# Altium footprint library Conn_Molex_47491-0001_eec_0.PcbLib: 1 footprints
Each footprint in its own frame and in the unit in brackets; x right, y up, seen from the top. Pads: shape width x height; smd on the part's side, far side on the other; paste and mask are expansions set on the pad; w line width, h text height; cw(c..) or ccw(c..) is an arc to the next point about the centre after c.
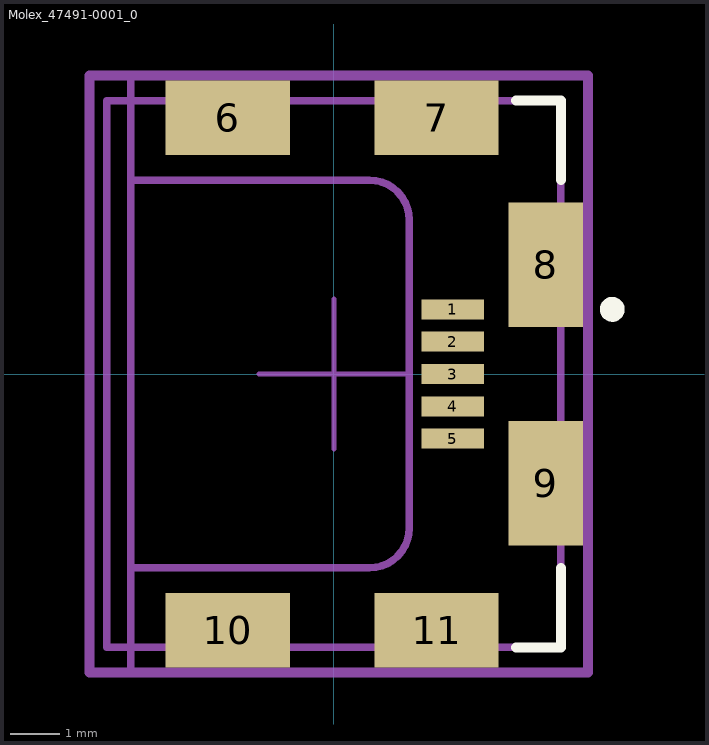
[diagram p0: the footprint, top view; thin cyan lines are the x and y axes]

## Molex_47491-0001_0 [mm]
pads (11):
  rect 1.25x0.4 smd paste+0 mask+0: 1(2.39,1.3) 2(2.39,0.65) 3(2.39,0) 4(2.39,-0.65) 5(2.39,-1.3)
  rect 2.5x1.5 smd paste+0 mask+0: 6(-2.135,5.15) 7(2.065,5.15) 10(-2.135,-5.15) 11(2.065,-5.15)
  rect 1.5x2.5 smd paste+0 mask+0: 8(4.265,2.2) 9(4.265,-2.2)
Top Overlay:
  circle w0.25: c5.6,1.3 r0.125
  lines w0.2: 3.665,-5.5 4.565,-5.5 4.565,-3.9 ; 3.665,5.5 4.565,5.5 4.565,3.9
Mechanical 2:
  lines w0.15: -4.085,-5.9 -4.085,-3.9 0.715,-3.9 ccw(c0.715,-3.1) 1.515,-3.1 1.515,3.1 ccw(c0.715,3.1) 0.715,3.9 -4.085,3.9 -4.085,5.9
Mechanical 10:
  lines w0.2: -4.915,-6 5.115,-6 5.115,6 -4.915,6 -4.915,-6
  text ".Designator" at 0.1,0 h1
Mechanical 12:
  lines w0.15: -4.085,-6 -4.085,6 ; -4.565,-5.5 4.565,-5.5 4.565,5.5 -4.565,5.5 -4.565,-5.5
Mechanical 15:
  lines w0.1: -1.505,0 1.505,0 ; 0,-1.505 0,1.505
  lines w0.2: -4.915,-6 5.115,-6 5.115,6 -4.915,6 -4.915,-6
3D body "3dmodel.step": height 1.44, standoff -1.5, extent -4.202,-5.486 4.928,5.514